# EAGLE library part ADS112C04IPW (library ADS112C04IPW)
Analog to Digital Converters - ADC 16-Bit 2kSPS 4-Ch Low-Power Delta-Sigma ADC With PGA, Voltage Reference, IDACs, and I2C Interface 16-TSSOP -40 to 125 Source: Datasheet <https://datasheet.datasheetarchive.com/originals/distributors/DKDS41/DSANUWW0029291.pdf>
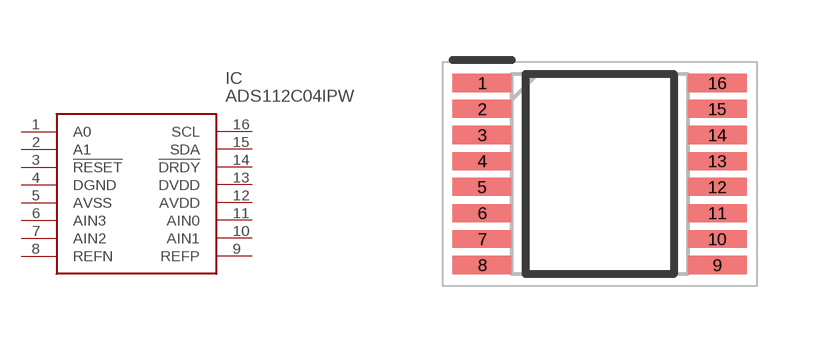
[diagram p0: symbol with the pads of SOP65P640X120-16N; footprint SOP65P640X120-16N]

Designator prefix IC

## ADS112C04IPW (Description: Analog to Digital Converters - ADC 16-Bit 2kSPS 4-Ch Low-Power Delta-Sigma ADC With PGA, Voltage Reference, IDACs, and I2C Interface 16-TSSOP -40 to 125; Height: 1.2mm; Manufacturer_Name: Texas Instruments; Manufacturer_Part_Number: ADS112C04IPW; Mouser_Part_Number: 595-ADS112C04IPW; Mouser_Price-Stock: https://www.mouser.co.uk/ProductDetail/Texas-Instruments/ADS112C04IPW?qs=55YtniHzbhAHI%252BSH3qtesg%3D%3D)  [SOP65P640X120-16N]
1  A0
2  A1
3  !RESET
4  DGND
5  AVSS
6  AIN3
7  AIN2
8  REFN
9  REFP
10  AIN1
11  AIN0
12  AVDD
13  DVDD
14  !DRDY
15  SDA
16  SCL

## Footprint SOP65P640X120-16N (pad centres in mm)
ADS112C04IPW-1
smd 1.475 x 0.45: 1 -2.938,2.275; 2 -2.938,1.625; 3 -2.938,0.975; 4 -2.938,0.325; 5 -2.938,-0.325; 6 -2.938,-0.975; 7 -2.938,-1.625; 8 -2.938,-2.275; 9 2.938,-2.275; 10 2.938,-1.625; 11 2.938,-0.975; 12 2.938,-0.325; 13 2.938,0.325; 14 2.938,0.975; 15 2.938,1.625; 16 2.938,2.275